# Altium footprint library NeoObscura.PcbLib: 10 footprints
Each footprint in its own frame and in the unit in brackets; x right, y up, seen from the top. Pads: shape width x height; smd on the part's side, far side on the other; paste and mask are expansions set on the pad; w line width, h text height; cw(c..) or ccw(c..) is an arc to the next point about the centre after c.
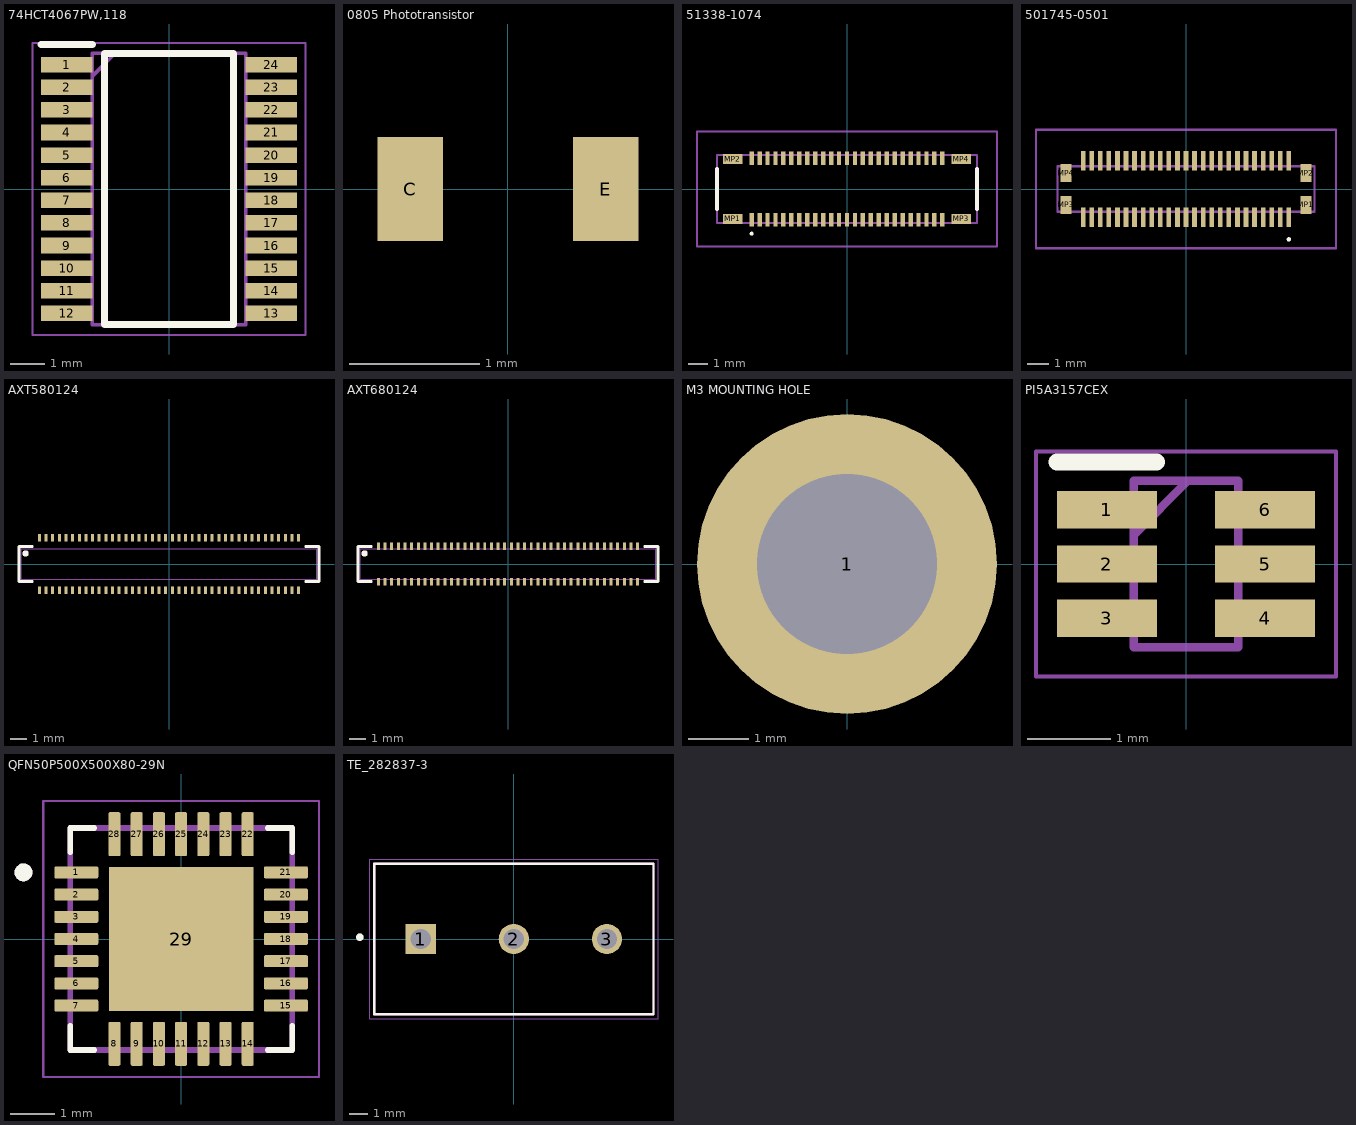
[diagram p0: the footprints below, top view; thin cyan lines are the x and y axes]

## 74HCT4067PW,118 [mm]
pads (24):
  rect 1.475x0.45 smd: 1(-2.938,3.575) 2(-2.938,2.925) 3(-2.938,2.275) 4(-2.938,1.625) 5(-2.938,0.975) 6(-2.938,0.325) 7(-2.938,-0.325) 8(-2.938,-0.975) 9(-2.938,-1.625) 10(-2.938,-2.275) 11(-2.938,-2.925) 12(-2.938,-3.575) 13(2.938,-3.575) 14(2.938,-2.925) 15(2.938,-2.275) 16(2.938,-1.625) 17(2.938,-0.975) 18(2.938,-0.325) 19(2.938,0.325) 20(2.938,0.975) 21(2.938,1.625) 22(2.938,2.275) 23(2.938,2.925) 24(2.938,3.575)
Top Overlay:
  lines w0.2: -3.675,4.15 -2.2,4.15 ; -1.85,-3.9 1.85,-3.9 1.85,3.9 -1.85,3.9 -1.85,-3.9
Mechanical 15:
  lines w0.1: -2.2,3.25 -1.55,3.9 ; -2.2,-3.9 2.2,-3.9 2.2,3.9 -2.2,3.9 -2.2,-3.9
Mechanical 20:
  lines w0.05: -3.925,-4.2 3.925,-4.2 3.925,4.2 -3.925,4.2 -3.925,-4.2

## 0805 Phototransistor [mm]
pads (2):
  rect 0.5x0.8 smd: C(-0.75,0) E(0.75,0)
3D body "PT0805CS.STEP": height 1, standoff 0, extent -1.016,-0.542 0.984,0.508

## 51338-1074 [mm]
pads (54):
  rect 0.22x0.7 smd: 1(-4.8,-1.55) 2(-4.8,1.55) 3(-4.4,-1.55) 4(-4.4,1.55) 5(-4,-1.55) 6(-4,1.55) 7(-3.6,-1.55) 8(-3.6,1.55) 9(-3.2,-1.55) 10(-3.2,1.55) 11(-2.8,-1.55) 12(-2.8,1.55) 13(-2.4,-1.55) 14(-2.4,1.55) 15(-2,-1.55) 16(-2,1.55) 17(-1.6,-1.55) 18(-1.6,1.55) 19(-1.2,-1.55) 20(-1.2,1.55) 21(-0.8,-1.55) 22(-0.8,1.55) 23(-0.4,-1.55) 24(-0.4,1.55) 25(0,-1.55) 26(0,1.55) 27(0.4,-1.55) 28(0.4,1.55) 29(0.8,-1.55) 30(0.8,1.55) 31(1.2,-1.55) 32(1.2,1.55) 33(1.6,-1.55) 34(1.6,1.55) 35(2,-1.55) 36(2,1.55) 37(2.4,-1.55) 38(2.4,1.55) 39(2.8,-1.55) 40(2.8,1.55) 41(3.2,-1.55) 42(3.2,1.55) 43(3.6,-1.55) 44(3.6,1.55) 45(4,-1.55) 46(4,1.55) 47(4.4,-1.55) 48(4.4,1.55) 49(4.8,-1.55) 50(4.8,1.55)
  rect 1x0.5 smd: MP1(-5.75,-1.5) MP2(-5.75,1.5) MP3(5.75,-1.5) MP4(5.75,1.5)
Top Overlay:
  lines w0.1: -4.8,-2.3 ccw(c-4.8,-2.25) -4.8,-2.2 ccw(c-4.8,-2.25) -4.8,-2.3
  lines w0.2: -6.55,-1 -6.55,1 ; 6.55,-1 6.55,-0.8 6.55,1
Mechanical 15:
  lines w0.1: -6.55,-1.7 -6.55,1.7 6.55,1.7 6.55,-1.7 -6.55,-1.7
Mechanical 20:
  lines w0.1: -7.55,-2.9 -7.55,2.9 7.55,2.9 7.55,-2.9 -7.55,-2.9
3D body "513380574.stp": height 1.33, standoff -0.07, extent -6.55,-1.7 6.55,1.7

## 501745-0501 [mm]
pads (54):
  rect 0.22x0.9 smd: 1(4.8,-1.315) 2(4.8,1.315) 3(4.4,-1.315) 4(4.4,1.315) 5(4,-1.315) 6(4,1.315) 7(3.6,-1.315) 8(3.6,1.315) 9(3.2,-1.315) 10(3.2,1.315) 11(2.8,-1.315) 12(2.8,1.315) 13(2.4,-1.315) 14(2.4,1.315) 15(2,-1.315) 16(2,1.315) 17(1.6,-1.315) 18(1.6,1.315) 19(1.2,-1.315) 20(1.2,1.315) 21(0.8,-1.315) 22(0.8,1.315) 23(0.4,-1.315) 24(0.4,1.315) 25(0,-1.315) 26(0,1.315) 27(-0.4,-1.315) 28(-0.4,1.315) 29(-0.8,-1.315) 30(-0.8,1.315) 31(-1.2,-1.315) 32(-1.2,1.315) 33(-1.6,-1.315) 34(-1.6,1.315) 35(-2,-1.315) 36(-2,1.315) 37(-2.4,-1.315) 38(-2.4,1.315) 39(-2.8,-1.315) 40(-2.8,1.315) 41(-3.2,-1.315) 42(-3.2,1.315) 43(-3.6,-1.315) 44(-3.6,1.315) 45(-4,-1.315) 46(-4,1.315) 47(-4.4,-1.315) 48(-4.4,1.315) 49(-4.8,-1.315) 50(-4.8,1.315)
  rect 0.5x0.85 smd: MP1(5.6,-0.74) MP2(5.6,0.74) MP3(-5.6,-0.74) MP4(-5.6,0.74)
Top Overlay:
  lines w0.1: 4.8,-2.4 ccw(c4.8,-2.35) 4.8,-2.3 ccw(c4.8,-2.35) 4.8,-2.4
Mechanical 15:
  lines w0.1: -6,-1.065 6,-1.065 6,1.065 -6,1.065 -6,-1.065
Mechanical 20:
  lines w0.1: -7,-2.765 7,-2.765 7,2.765 -7,2.765 -7,-2.765
3D body "5017450501.stp": height 1.72, standoff 0.02, extent -6,-1.565 6,1.565

## AXT580124 [mil]
pads (80):
  rect 7x18 smd paste+0 mask+0: 1(-307.12,62.13) 2(-291.38,62.13) 3(-275.62,62.13) 4(-259.88,62.13) 5(-244.12,62.13) 6(-228.38,62.13) 7(-212.62,62.13) 8(-196.88,62.13) 9(-181.12,62.13) 10(-165.38,62.13) 11(-149.62,62.13) 12(-133.88,62.13) 13(-118.12,62.13) 14(-102.38,62.13) 15(-86.62,62.13) 16(-70.88,62.13) 17(-55.12,62.13) 18(-39.38,62.13) 19(-23.62,62.13) 20(-7.88,62.13) 21(7.88,62.13) 22(23.62,62.13) 23(39.38,62.13) 24(55.12,62.13) 25(70.88,62.13) 26(86.62,62.13) 27(102.38,62.13) 28(118.12,62.13) 29(133.88,62.13) 30(149.62,62.13) 31(165.38,62.13) 32(181.12,62.13) 33(196.88,62.13) 34(212.62,62.13) 35(228.38,62.13) 36(244.12,62.13) 37(259.88,62.13) 38(275.62,62.13) 39(291.38,62.13) 40(307.12,62.13) 41(-307.12,-62.13) 42(-291.38,-62.13) 43(-275.62,-62.13) 44(-259.88,-62.13) 45(-244.12,-62.13) 46(-228.38,-62.13) 47(-212.62,-62.13) 48(-196.88,-62.13) 49(-181.12,-62.13) 50(-165.38,-62.13) 51(-149.62,-62.13) 52(-133.88,-62.13) 53(-118.12,-62.13) 54(-102.38,-62.13) 55(-86.62,-62.13) 56(-70.88,-62.13) 57(-55.12,-62.13) 58(-39.38,-62.13) 59(-23.62,-62.13) 60(-7.88,-62.13) 61(7.88,-62.13) 62(23.62,-62.13) 63(39.38,-62.13) 64(55.12,-62.13) 65(70.88,-62.13) 66(86.62,-62.13) 67(102.38,-62.13) 68(118.12,-62.13) 69(133.88,-62.13) 70(149.62,-62.13) 71(165.38,-62.13) 72(181.12,-62.13) 73(196.88,-62.13) 74(212.62,-62.13) 75(228.38,-62.13) 76(244.12,-62.13) 77(259.88,-62.13) 78(275.62,-62.13) 79(291.38,-62.13) 80(307.12,-62.13)
Top Overlay:
  circle w10: c-340,25 r2.5
  lines w6: -323.73,-41.5 -355.5,-41.5 -355.5,41.5 -323.73,41.5 ; 323.73,-41.5 355.5,-41.5 355.5,41.5 323.73,41.5
Mechanical 13:
  lines w1: -350.5,-36.5 350.5,-36.5 350.5,36.5 -350.5,36.5 -350.5,-36.5
3D body "axt580124.stp": height 38.19, standoff 0, extent -364.17,-70.87 364.17,70.87

## AXT680124 [mil]
pads (80):
  rect 7x18 smd paste+0 mask+0: 1(-307.12,42.13) 2(-291.38,42.13) 3(-275.62,42.13) 4(-259.88,42.13) 5(-244.12,42.13) 6(-228.38,42.13) 7(-212.62,42.13) 8(-196.88,42.13) 9(-181.12,42.13) 10(-165.38,42.13) 11(-149.62,42.13) 12(-133.88,42.13) 13(-118.12,42.13) 14(-102.38,42.13) 15(-86.62,42.13) 16(-70.88,42.13) 17(-55.12,42.13) 18(-39.38,42.13) 19(-23.62,42.13) 20(-7.88,42.13) 21(7.88,42.13) 22(23.62,42.13) 23(39.38,42.13) 24(55.12,42.13) 25(70.88,42.13) 26(86.62,42.13) 27(102.38,42.13) 28(118.12,42.13) 29(133.88,42.13) 30(149.62,42.13) 31(165.38,42.13) 32(181.12,42.13) 33(196.88,42.13) 34(212.62,42.13) 35(228.38,42.13) 36(244.12,42.13) 37(259.88,42.13) 38(275.62,42.13) 39(291.38,42.13) 40(307.12,42.13) 41(-307.12,-42.13) 42(-291.38,-42.13) 43(-275.62,-42.13) 44(-259.88,-42.13) 45(-244.12,-42.13) 46(-228.38,-42.13) 47(-212.62,-42.13) 48(-196.88,-42.13) 49(-181.12,-42.13) 50(-165.38,-42.13) 51(-149.62,-42.13) 52(-133.88,-42.13) 53(-118.12,-42.13) 54(-102.38,-42.13) 55(-86.62,-42.13) 56(-70.88,-42.13) 57(-55.12,-42.13) 58(-39.38,-42.13) 59(-23.62,-42.13) 60(-7.88,-42.13) 61(7.88,-42.13) 62(23.62,-42.13) 63(39.38,-42.13) 64(55.12,-42.13) 65(70.88,-42.13) 66(86.62,-42.13) 67(102.38,-42.13) 68(118.12,-42.13) 69(133.88,-42.13) 70(149.62,-42.13) 71(165.38,-42.13) 72(181.12,-42.13) 73(196.88,-42.13) 74(212.62,-42.13) 75(228.38,-42.13) 76(244.12,-42.13) 77(259.88,-42.13) 78(275.62,-42.13) 79(291.38,-42.13) 80(307.12,-42.13)
Top Overlay:
  circle w10: c-340,25 r2.5
  lines w6: -323.73,-41.5 -355.5,-41.5 -355.5,41.5 -323.73,41.5 ; 323.73,-41.5 355.5,-41.5 355.5,41.5 323.73,41.5
Mechanical 13:
  lines w1: -350.5,-36.5 -350.5,36.5 350.5,36.5 350.5,-36.5 -350.5,-36.5
3D body "axt680124.stp": height 32.68, standoff 0, extent -350.39,-51.18 350.39,51.18

## M3 MOUNTING HOLE [mm]
pads (1):
  round 5 hole 3: 1(0,0)

## PI5A3157CEX [mm]
pads (6):
  rect 1.2x0.45 smd: 1(-0.95,0.65) 2(-0.95,0) 3(-0.95,-0.65) 4(0.95,-0.65) 5(0.95,0) 6(0.95,0.65)
Top Overlay:
  lines w0.2: -1.55,1.225 -0.35,1.225
Mechanical 15:
  lines w0.1: -0.625,0.35 0.025,1 ; -0.625,-1 -0.625,1 0.625,1 0.625,-1 -0.625,-1
Mechanical 20:
  lines w0.05: -1.8,-1.35 -1.8,1.35 1.8,1.35 1.8,-1.35 -1.8,-1.35
3D body "PI5A3157CEX.stp": height 1.1, standoff 0, extent -1.05,-1 1.05,1

## QFN50P500X500X80-29N [mm]
pads (29):
  rrect25% 0.99x0.27 smd mask+0.15: 1(-2.36,1.5) 2(-2.36,1) 3(-2.36,0.5) 4(-2.36,0) 5(-2.36,-0.5) 6(-2.36,-1) 7(-2.36,-1.5) 15(2.36,-1.5) 16(2.36,-1) 17(2.36,-0.5) 18(2.36,0) 19(2.36,0.5) 20(2.36,1) 21(2.36,1.5)
  rrect25% 0.27x0.99 smd mask+0.15: 8(-1.5,-2.36) 9(-1,-2.36) 10(-0.5,-2.36) 11(0,-2.36) 12(0.5,-2.36) 13(1,-2.36) 14(1.5,-2.36) 22(1.5,2.36) 23(1,2.36) 24(0.5,2.36) 25(0,2.36) 26(-0.5,2.36) 27(-1,2.36) 28(-1.5,2.36)
  rect 3.25x3.25 smd paste-0.595 mask+0.17: 29(0,0)
Top Overlay:
  circle w0.2: c-3.55,1.5 r0.1
  lines w0.127: -2.5,-1.955 -2.5,-2.5 -1.955,-2.5 ; -2.5,1.955 -2.5,2.5 -1.955,2.5 ; 1.955,-2.5 2.5,-2.5 2.5,-1.955 ; 1.955,2.5 2.5,2.5 2.5,1.955
Mechanical 13:
  circle w0.2: c-3.55,1.5 r0.1
  lines w0.127: -2.5,-2.5 2.5,-2.5 2.5,2.5 -2.5,2.5 -2.5,-2.5
Mechanical 15:
  lines w0.05: -3.105,-3.105 3.105,-3.105 3.105,3.105 -3.105,3.105 -3.105,-3.105
3D body "step_temp.STEP": height 0.8, standoff 0, extent -2.5,-2.5 2.5,2.5

## TE_282837-3 [mm]
pads (3):
  rect 1.65x1.65 hole 1.1: 1(-5.08,0)
  round 1.65 hole 1.1: 2(0,0) 3(5.08,0)
Top Overlay:
  circle w0.2: c-8.4,0.1 r0.1
  lines w0.127: -7.62,-4.1 -7.62,4.1 7.62,4.1 7.62,-4.1 -7.62,-4.1
Mechanical 13:
  circle w0.2: c-8.4,0.1 r0.1
  lines w0.127: -7.62,-4.1 -7.62,4.1 7.62,4.1 7.62,-4.1 -7.62,-4.1
Mechanical 15:
  lines w0.05: -7.87,-4.35 -7.87,4.35 7.87,4.35 7.87,-4.35 -7.87,-4.35
3D body "c-282837-3-f-3d.stp": height 10.25, standoff -3.25, extent -8.301,-4.136 7.539,4.064